# Altium integrated library Relays.IntLib: 4 symbols
Pins are listed as number, name and electrical type; pins without a type are passive.

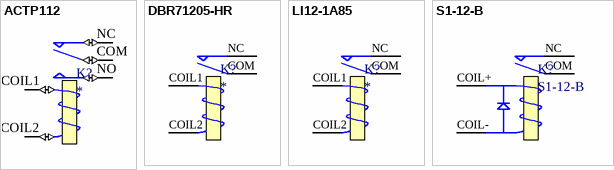
[diagram p0: symbols ACTP112 to S1-12-B]

## ACTP112
designator K?
Current: 30; CoilVoltage: 12; CoilCurrent: 83.3m; Name: *; Type: Non-latching; MaxVoltage: *; Flyback: *; Mounting: *; Package: *; ComponentLink1Description: Digikey; ComponentLink1URL: https://www.digikey.com/product-detail/en/panasonic-electric-works/ACTP112/255-5163-ND/4691838
footprint ACTP112 (ACTP112, 12V Relay)
pins: COIL1 T1 (io), COIL2 T2 (io), COM (io), NC (io), NO (io)

## DBR71205-HR
designator K?
RELAY REED 5KV 12V SPST-NC; Name: DBR71205-HR; Current: 3A; MaxVoltage: 1000; CoilVoltage: 12; CoilCurrent: 50mA; Type: NC; Flyback: *; Mounting: *; Package: *; ComponentLink1Description: Digikey; ComponentLink1URL: https://www.digikey.com/en/products/detail/sensata-cynergy3/dbr71205-hr/10239363
footprint DBR71205-HR (DBR71205-HR HIGH INSULATION RESISTANCE, HIGH VOLTAGE RELAYS)
pins: 1 COM, 2 NC, 3 COIL1, 4 COIL2

## LI12-1A85
designator K?
Current: 30; CoilVoltage: 12; CoilCurrent: 83.3m; Name: *; Type: Non-latching; MaxVoltage: *; Flyback: *; Mounting: *; Package: *; ComponentLink1Description: Digikey; ComponentLink1URL: https://www.digikey.com/product-detail/en/panasonic-electric-works/ACTP112/255-5163-ND/4691838
footprint LI12-1A85
pins: 1 COIL1, 2 COIL2, 3 NC, 4 COM

## S1-12-B
designator K?
RELAY REED 1 N/C 1.5KV 12V; Current: 500mA; MaxVoltage: 1000VDC; CoilVoltage: 12; CoilCurrent: 6mA; Name: S1-12-B; Type: Non-latching; Flyback: *; Mounting: *; Package: *; ComponentLink1Description: Digikey; ComponentLink1URL: https://www.digikey.com/product-detail/en/panasonic-electric-works/ACTP112/255-5163-ND/4691838
footprint S1-12-B
pins: 1 COM, 2 COIL1, 3 COIL2, 4 NC
text: COIL+; COIL-